# EAGLE library part MOS_6532 (library tiny_stella)
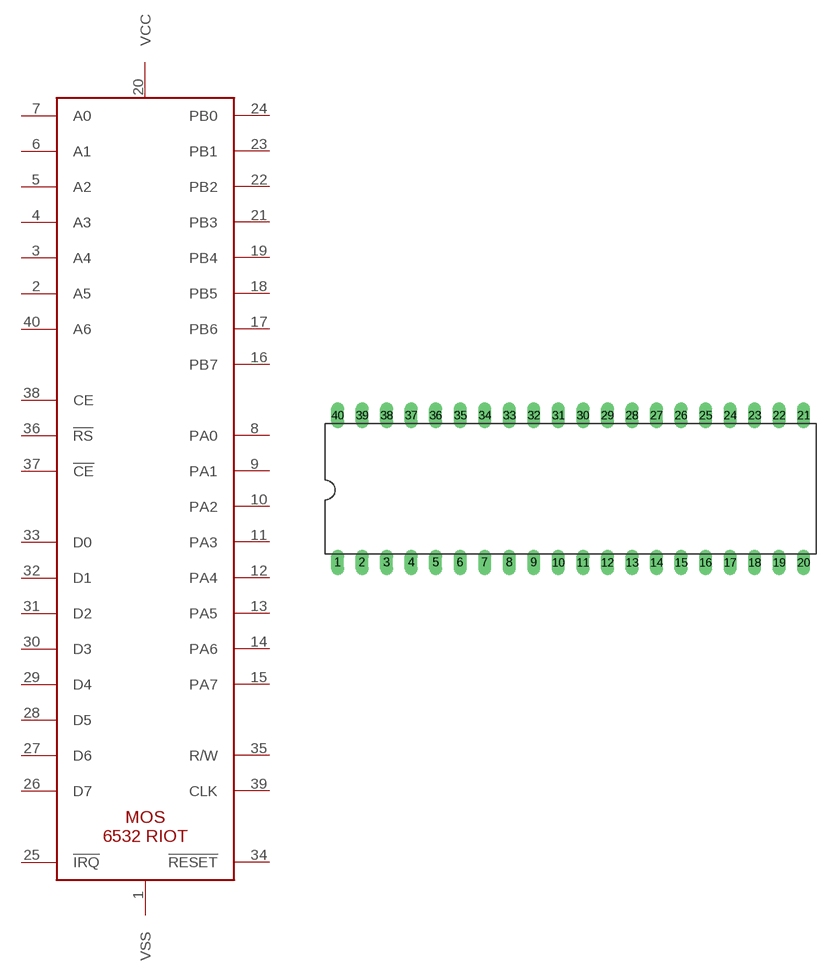
[diagram p1: symbol with the pads of DIL40; footprint DIL40]

Designator prefix -

## MOS_6532  [DIL40]
1  VSS
2  A5
3  A4
4  A3
5  A2
6  A1
7  A0
8  PA0
9  PA1
10  PA2
11  PA3
12  PA4
13  PA5
14  PA6
15  PA7
16  PB7
17  PB6
18  PB5
19  PB4
20  VCC
21  PB3
22  PB2
23  PB1
24  PB0
25  !IRQ
26  D7
27  D6
28  D5
29  D4
30  D3
31  D2
32  D1
33  D0
34  !RESET
35  R/W
36  !RS
37  !CE
38  CE
39  CLK
40  A6

## Footprint DIL40 (pad centres in mm)
Dual In Line Package
drill 0.813 long: 1 -24.13,-7.62; 2 -21.59,-7.62; 3 -19.05,-7.62; 4 -16.51,-7.62; 5 -13.97,-7.62; 6 -11.43,-7.62; 7 -8.89,-7.62; 8 -6.35,-7.62; 9 -3.81,-7.62; 10 -1.27,-7.62; 11 1.27,-7.62; 12 3.81,-7.62; 13 6.35,-7.62; 14 8.89,-7.62; 15 11.43,-7.62; 16 13.97,-7.62; 17 16.51,-7.62; 18 19.05,-7.62; 19 21.59,-7.62; 20 24.13,-7.62; 21 24.13,7.62; 22 21.59,7.62; 23 19.05,7.62; 24 16.51,7.62; 25 13.97,7.62; 26 11.43,7.62; 27 8.89,7.62; 28 6.35,7.62; 29 3.81,7.62; 30 1.27,7.62; 31 -1.27,7.62; 32 -3.81,7.62; 33 -6.35,7.62; 34 -8.89,7.62; 35 -11.43,7.62; 36 -13.97,7.62; 37 -16.51,7.62; 38 -19.05,7.62; 39 -21.59,7.62; 40 -24.13,7.62